# Altium schematic symbol library R-Resistor.SCHLIB: 68 symbols
Pins are listed as number, name and electrical type; pins without a type are passive.

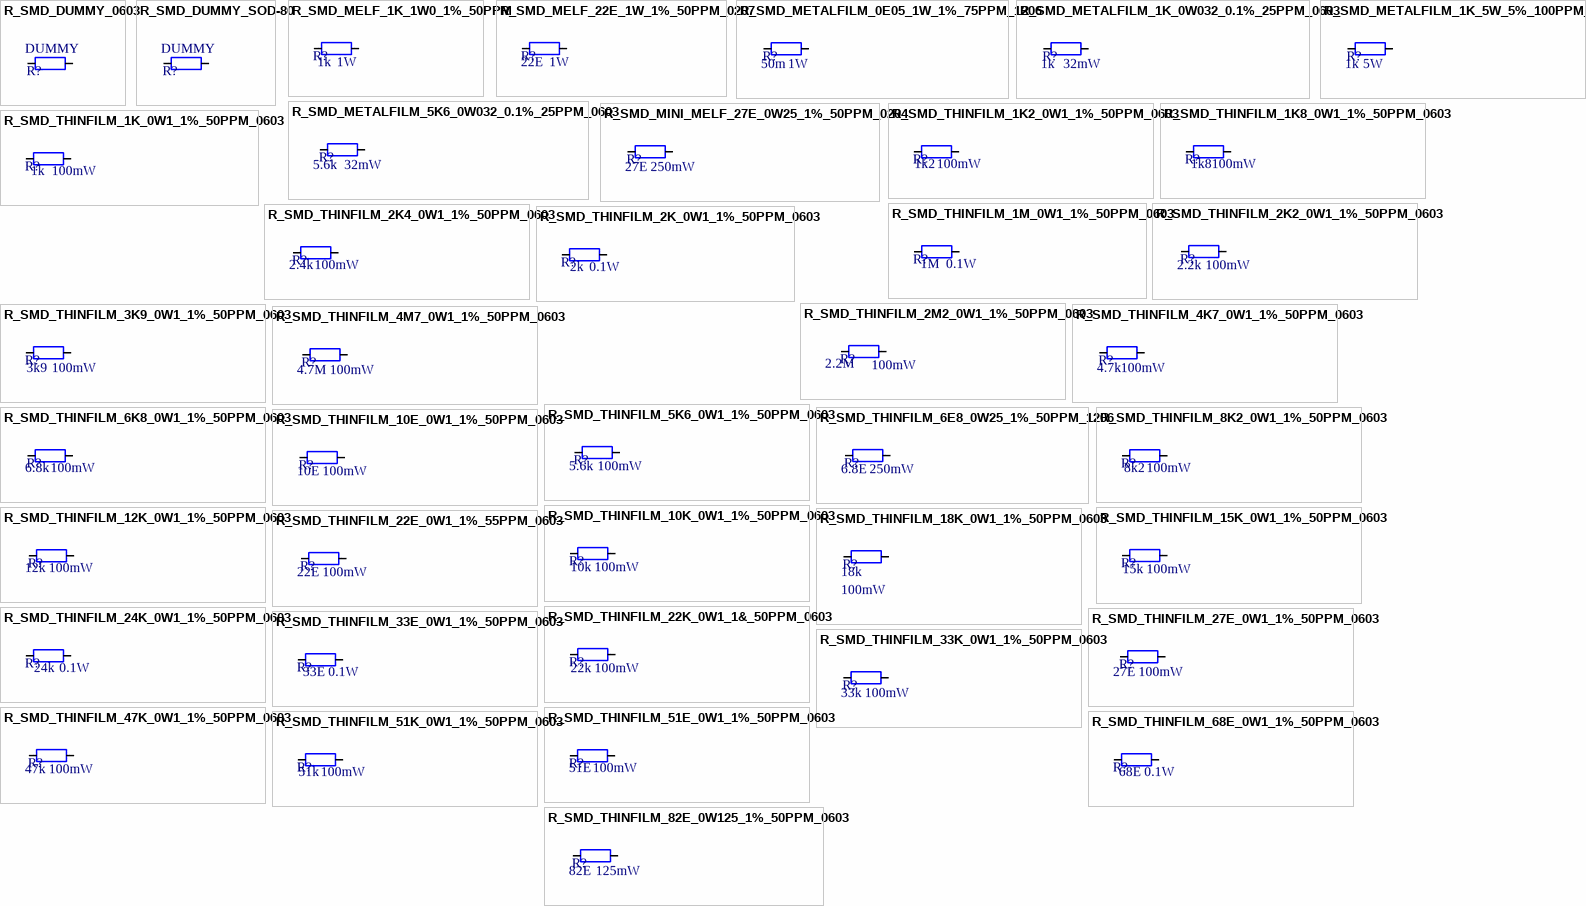
[diagram p0: symbols R_SMD_DUMMY_0603 to R_SMD_THINFILM_82E_0W125_1%_50PPM_0603]

## R_SMD_DUMMY_0603
designator R?, comment DUMMY
DUMMY 0603
footprint SMD_0603
pins: 1, 2

## R_SMD_DUMMY_SOD-80
designator R?, comment DUMMY
footprint SMD_SOD_80
pins: 1, 2

## R_SMD_MELF_1K_1W0_1%_50PPM
designator R?  value 1k  Value2: 1W  (hidden comment: R_SMD_MELF_1K_1W0_1%_50PPM)
SMD Resistor; Supplier - E+H-flowtec SAP: 50087788
footprint SMD_0207
pins: 1, 2

## R_SMD_MELF_22E_1W_1%_50PPM_0207
designator R?  value 22E  Value2: 1W  (hidden comment: R_SMD_MELF_22E_1W_1%_50PPM_0207)
SMD Resistor; Supplier - E+H-flowtec SAP: 50083514
footprint SMD_0207
pins: 1, 2

## R_SMD_METALFILM_0E05_1W_1%_75PPM_1206
designator R?  value 50m  Value2: 1W  (hidden comment: R_SMD_METALFILM_0E05_1W_1%_75PPM_1206)
SMD Resitor, 50m, 1W; Supplier - Digikey: WSLP-.05CT-ND
footprint SMD_1206
pins: 1, 2

## R_SMD_METALFILM_1K_0W032_0.1%_25PPM_0603
designator R?  value 1k  Value2: 32mW  (hidden comment: R_SMD_METALFILM_1K_0W032_0.1%_25PPM_0603)
SMD Resistor precise; Supplier - E+H-flowtec SAP: 71120415
footprint SMD_0603
pins: 1, 2

## R_SMD_METALFILM_1K_5W_5%_100PPM_5329
designator R?  value 1k  Value2: 5W  (hidden comment: R_SMD_METALFILM_1K_5W_5%_100PPM_5329)
Supplier - Digikey: A103581CT-ND
footprint SMD_5329
pins: 1, 2

## R_SMD_METALFILM_5K6_0W032_0.1%_25PPM_0603
designator R?  value 5.6k  Value2: 32mW  (hidden comment: R_SMD_METALFILM_5K6_0W032_0.1%_25PPM_0603)
SMD Resistor Precise; Supplier - E+H-flowtec SAP: 71028882
footprint SMD_0603
pins: 1, 2

## R_SMD_MINI_MELF_27E_0W25_1%_50PPM_0204
designator R?  value 27E  Value2: 250mW  (hidden comment: R_SMD_MINI_MELF_27E_0W25_1%_50PPM_0204)
Supplier - E+H-flowtec SAP: 50019731
footprint SMD_0204
pins: 1, 2

## R_SMD_THINFILM_1K2_0W1_1%_50PPM_0603
designator R?  value 1k2  Value2: 100mW  (hidden comment: R_SMD_THINFILM_1K2_0W1_1%_50PPM_0603)
SMD Resistor; Supplier - E+H-flowtec: 50098312
footprint SMD_0603
pins: 1, 2

## R_SMD_THINFILM_1K8_0W1_1%_50PPM_0603
designator R?  value 1k8  Value2: 100mW  (hidden comment: R_SMD_THINFILM_1K8_0W1_1%_50PPM_0603)
SMD Resistor; Supplier - E+H-flowtec SAP: 50098311
footprint SMD_0603
pins: 1, 2

## R_SMD_THINFILM_1K_0W1_1%_50PPM_0603
designator R?  value 1k  Value2: 100mW  (hidden comment: R_SMD_THINFILM_1K_0W1_1%_50PPM_0603)
SMD Resistor; Supplier - E+H-flowtec SAP: 50092685
footprint SMD_0603
pins: 1, 2

## R_SMD_THINFILM_1M_0W1_1%_50PPM_0603
designator R?  value 1M  Value2: 0.1W  (hidden comment: R_SMD_THINFILM_1M_0W1_1%_50PPM_0603)
SMD Resistor; Supplier - E+H-flowtec SAP: 50092725
footprint SMD_0603
pins: 1, 2

## R_SMD_THINFILM_2K2_0W1_1%_50PPM_0603
designator R?  value 2.2k  Value2: 100mW  (hidden comment: R_SMD_THINFILM_2K2_0W1_1%_50PPM_0603)
SMD Resistor; Supplier - E+H-flowtec SAP: 50092688
footprint SMD_0603
pins: 1, 2

## R_SMD_THINFILM_2K4_0W1_1%_50PPM_0603
designator R?  value 2.4k  Value2: 100mW  (hidden comment: R_SMD_THINFILM_2K4_0W1_1%_50PPM_0603)
SMD Resistor; Supplier - E+H-flowtec SAP: 50092689
footprint SMD_0603
pins: 1, 2

## R_SMD_THINFILM_2K_0W1_1%_50PPM_0603
designator R?  value 2k  Value2: 0.1W  (hidden comment: R_SMD_THINFILM_2K_0W1_1%_50PPM_0603)
SMD Resistor; Supplier - E+H-flowtec SAP: 50092687
footprint SMD_0603
pins: 1, 2

## R_SMD_THINFILM_2M2_0W1_1%_50PPM_0603
designator R?  value 2.2M  Value2: 100mW  (hidden comment: R_SMD_THINFILM_2M2_0W1_1%_50PPM_0603)
SMD Resistor; Supplier - E+H-flowtec SAP: 50092790
footprint SMD_0603
pins: 1, 2

## R_SMD_THINFILM_3K9_0W1_1%_50PPM_0603
designator R?  value 3k9  Value2: 100mW  (hidden comment: R_SMD_THINFILM_3K9_0W1_1%_50PPM_0603)
SMD Resistor; Supplier - E+H-flowtec SAP: 50092692
footprint SMD_0603
pins: 1, 2

## R_SMD_THINFILM_4K7_0W1_1%_50PPM_0603
designator R?  value 4.7k  Value2: 100mW  (hidden comment: R_SMD_THINFILM_4K7_0W1_1%_50PPM_0603)
SMD Resistor; Supplier - E+H-flowtec SAP: 50092694
footprint SMD_0603
pins: 1, 2

## R_SMD_THINFILM_4M7_0W1_1%_50PPM_0603
designator R?  value 4.7M  Value2: 100mW  (hidden comment: R_SMD_THINFILM_4M7_0W1_1%_50PPM_0603)
SMD Resistor; Supplier - E+H-flowtec SAP: 71185385
footprint SMD_0603
pins: 1, 2

## R_SMD_THINFILM_5K6_0W1_1%_50PPM_0603
designator R?  value 5.6k  Value2: 100mW  (hidden comment: R_SMD_THINFILM_5K6_0W1_1%_50PPM_0603)
SMD Resistor; Supplier - E+H-flowtec SAP: 50092696
footprint SMD_0603
pins: 1, 2

## R_SMD_THINFILM_6E8_0W25_1%_50PPM_1206
designator R?  value 6.8E  Value2: 250mW  (hidden comment: R_SMD_THINFILM_6E8_0W25_1%_50PPM_1206)
SMD Resistor; Supplier - E+H-flowtec SAP: 71138859
footprint SMD_1206
pins: 1, 2

## R_SMD_THINFILM_6K8_0W1_1%_50PPM_0603
designator R?  value 6.8k  Value2: 100mW  (hidden comment: R_SMD_THINFILM_6K8_0W1_1%_50PPM_0603)
SMD Resistor; Supplier - E+H-flowtec SAP: 50092698
footprint SMD_0603
pins: 1, 2

## R_SMD_THINFILM_8K2_0W1_1%_50PPM_0603
designator R?  value 8k2  Value2: 100mW  (hidden comment: R_SMD_THINFILM_8K2_0W1_1%_50PPM_0603)
SMD Resistor; Supplier - E+H-flowtec SAP: 50092699
footprint SMD_0603
pins: 1, 2

## R_SMD_THINFILM_10E_0W1_1%_50PPM_0603
designator R?  value 10E  Value2: 100mW  (hidden comment: R_SMD_THINFILM_10E_0W1_1%_50PPM_0603)
SMD Resistor; Supplier - E+H-flowtec SAP: 50092664
footprint SMD_0603
pins: 1, 2

## R_SMD_THINFILM_10K_0W1_1%_50PPM_0603
designator R?  value 10k  Value2: 100mW  (hidden comment: R_SMD_THINFILM_10K_0W1_1%_50PPM_0603)
SMD Resistor; Supplier - E+H-flowtec SAP: 50092700
footprint SMD_0603
pins: 1, 2

## R_SMD_THINFILM_12K_0W1_1%_50PPM_0603
designator R?  value 12k  Value2: 100mW  (hidden comment: R_SMD_THINFILM_12K_0W1_1%_50PPM_0603)
SMD Resistor; Supplier - E+H-flowtec SAP: 50092701
footprint SMD_0603
pins: 1, 2

## R_SMD_THINFILM_15K_0W1_1%_50PPM_0603
designator R?  value 15k  Value2: 100mW  (hidden comment: R_SMD_THINFILM_15K_0W1_1%_50PPM_0603)
SMD Resistor; Supplier - E+H-flowtec SAP: 50092702
footprint SMD_0603
pins: 1, 2

## R_SMD_THINFILM_18K_0W1_1%_50PPM_0603
designator R?  value 18k  Value2: 100mW  (hidden comment: R_SMD_THINFILM_18K_0W1_1%_50PPM_0603)
SMD Resistor; Supplier - E+H-flowtec SAP: 50092703
footprint SMD_0603
pins: 1, 2

## R_SMD_THINFILM_22E_0W1_1%_55PPM_0603
designator R?  value 22E  Value2: 100mW  (hidden comment: R_SMD_THINFILM_22E_0W1_1%_55PPM_0603)
SMD Resistor; Supplier - E+H-flowtec SAP: 50092667
footprint SMD_0603
pins: 1, 2

## R_SMD_THINFILM_22K_0W1_1&_50PPM_0603
designator R?  value 22k  Value2: 100mW  (hidden comment: R_SMD_THINFILM_22K_0W1_1&_50PPM_0603)
SMD Resistor; Supplier - E+H-flowtec SAP: 50092704
footprint SMD_0603
pins: 1, 2

## R_SMD_THINFILM_24K_0W1_1%_50PPM_0603
designator R?  value 24k  Value2: 0.1W  (hidden comment: R_SMD_THINFILM_24K_0W1_1%_50PPM_0603)
SMD Resistor; Supplier - E+H-flowtec SAP: 50110072
footprint SMD_0603
pins: 1, 2

## R_SMD_THINFILM_27E_0W1_1%_50PPM_0603
designator R?  value 27E  Value2: 100mW  (hidden comment: R_SMD_THINFILM_27E_0W1_1%_50PPM_0603)
SMD Resistor; Supplier - E+H-flowtec SAP: (unknown)
footprint SMD_0603
pins: 1, 2

## R_SMD_THINFILM_33E_0W1_1%_50PPM_0603
designator R?  value 33E  Value2: 0.1W  (hidden comment: R_SMD_THINFILM_33E_0W1_1%_50PPM_0603)
SMD Resistor; Supplier - E+H-flowtec SAP: 50092668
footprint SMD_0603
pins: 1, 2

## R_SMD_THINFILM_33K_0W1_1%_50PPM_0603
designator R?  value 33k  Value2: 100mW  (hidden comment: R_SMD_THINFILM_33K_0W1_1%_50PPM_0603)
SMD Resistor; Supplier - E+H-flowtec SAP: 50092706
footprint SMD_0603
pins: 1, 2

## R_SMD_THINFILM_47K_0W1_1%_50PPM_0603
designator R?  value 47k  Value2: 100mW  (hidden comment: R_SMD_THINFILM_47K_0W1_1%_50PPM_0603)
SMD Resistor; Supplier - E+H-flowtec SAP: 50092708
footprint SMD_0603
pins: 1, 2

## R_SMD_THINFILM_51E_0W1_1%_50PPM_0603
designator R?  value 51E  Value2: 100mW  (hidden comment: R_SMD_THINFILM_51E_0W1_1%_50PPM_0603)
SMD Resistor; Supplier - E+H-flowtec SAP: 71203713
footprint SMD_0603
pins: 1, 2

## R_SMD_THINFILM_51K_0W1_1%_50PPM_0603
designator R?  value 51k  Value2: 100mW  (hidden comment: R_SMD_THINFILM_51K_0W1_1%_50PPM_0603)
SMD Resistor; Supplier - E+H-flowtec SAP: 50092709
footprint SMD_0603
pins: 1, 2

## R_SMD_THINFILM_68E_0W1_1%_50PPM_0603
designator R?  value 68E  Value2: 0.1W  (hidden comment: R_SMD_THINFILM_68E_0W1_1%_50PPM_0603)
SMD Resistor; Supplier - E+H-flowtec SAP: 71206293
footprint SMD_0603
pins: 1, 2

## R_SMD_THINFILM_82E_0W125_1%_50PPM_0603
designator R?  value 82E  Value2: 125mW  (hidden comment: R_SMD_THINFILM_82E_0W125_1%_50PPM_0603)
SMD Resistor; Supplier - Digikey: MCT06030C8209FP500-ND
footprint SMD_0603
pins: 1, 2

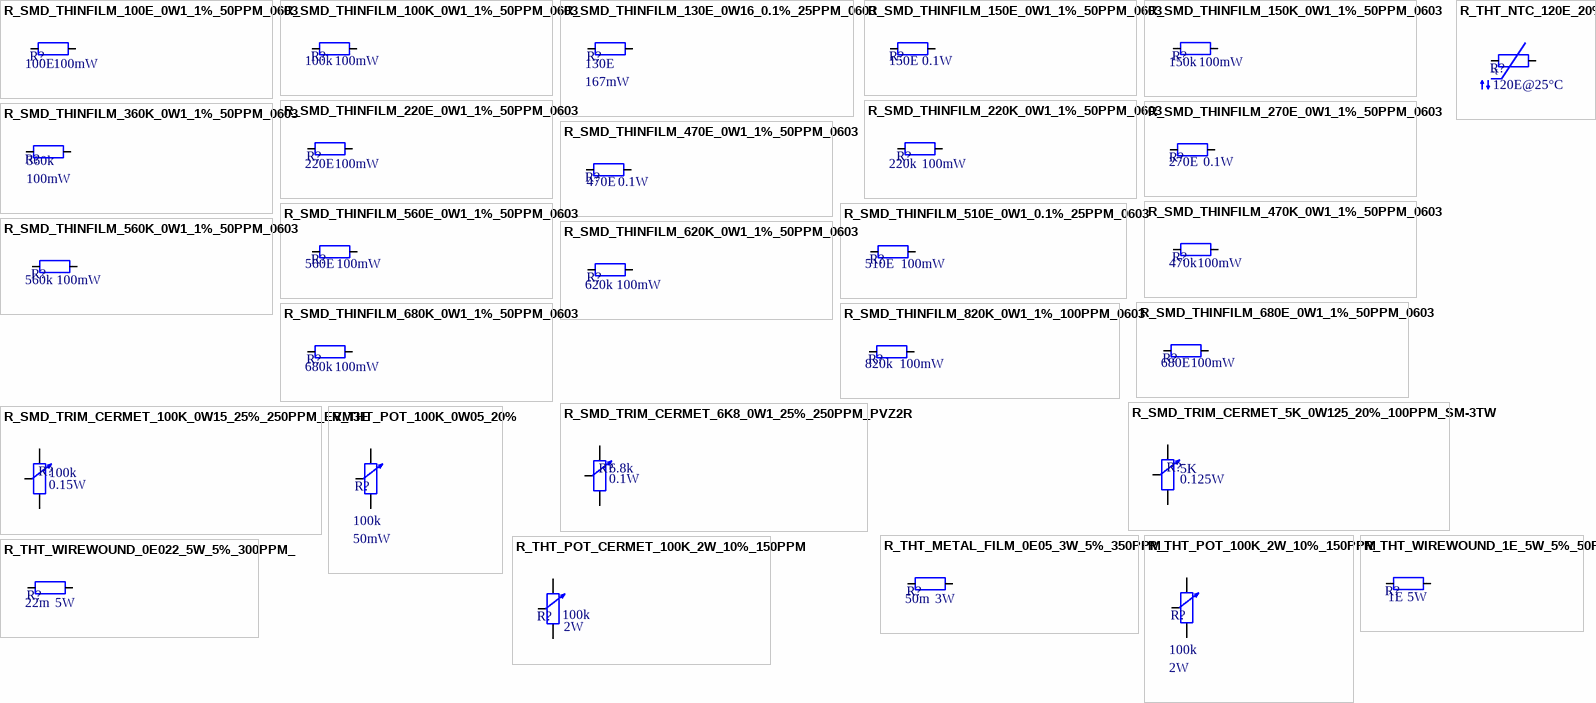
[diagram p1: symbols R_SMD_THINFILM_100E_0W1_1%_50PPM_0603 to R_THT_WIREWOUND_1E_5W_5%_50PPM]

## R_SMD_THINFILM_100E_0W1_1%_50PPM_0603
designator R?  value 100E  Value2: 100mW  (hidden comment: R_SMD_THINFILM_100E_0W1_1%_50PPM_0603)
SMD Resistor; Supplier - E+H-flowtec SAP: 50092674
footprint SMD_0603
pins: 1, 2

## R_SMD_THINFILM_100K_0W1_1%_50PPM_0603
designator R?  value 100k  Value2: 100mW  (hidden comment: R_SMD_THINFILM_100K_0W1_1%_50PPM_0603)
SMD Resistor; Supplier - E+H-flowtec SAP: 50092714
footprint SMD_0603
pins: 1, 2

## R_SMD_THINFILM_130E_0W16_0.1%_25PPM_0603
designator R?  value 130E  Value2: 167mW  (hidden comment: R_SMD_THINFILM_130E_0W16_0.1%_25PPM_0603)
Supplier - Digikey: A110023CT-ND
footprint SMD_0603
pins: 1, 2

## R_SMD_THINFILM_150E_0W1_1%_50PPM_0603
designator R?  value 150E  Value2: 0.1W  (hidden comment: R_SMD_THINFILM_150E_0W1_1%_50PPM_0603)
SMD Resistor; Supplier - E+H-flowtec SAP: 50092676
footprint SMD_0603
pins: 1, 2

## R_SMD_THINFILM_150K_0W1_1%_50PPM_0603
designator R?  value 150k  Value2: 100mW  (hidden comment: R_SMD_THINFILM_150K_0W1_1%_50PPM_0603)
SMD Resistor; Supplier - E+H-flowtec SAP: 50092716
footprint SMD_0603
pins: 1, 2

## R_SMD_THINFILM_220E_0W1_1%_50PPM_0603
designator R?  value 220E  Value2: 100mW  (hidden comment: R_SMD_THINFILM_220E_0W1_1%_50PPM_0603)
SMD Resistor; Supplier - E+H-flowtec SAP: 50092678
footprint SMD_0603
pins: 1, 2

## R_SMD_THINFILM_220K_0W1_1%_50PPM_0603
designator R?  value 220k  Value2: 100mW  (hidden comment: R_SMD_THINFILM_220K_0W1_1%_50PPM_0603)
SMD Resistor; Supplier - E+H-flowtec SAP: 50092718
footprint SMD_0603
pins: 1, 2

## R_SMD_THINFILM_270E_0W1_1%_50PPM_0603
designator R?  value 270E  Value2: 0.1W  (hidden comment: R_SMD_THINFILM_270E_0W1_1%_50PPM_0603)
SMD Resistor; Supplier - E+H-flowtec SAP: 50098310
footprint SMD_0603
pins: 1, 2

## R_SMD_THINFILM_360K_0W1_1%_50PPM_0603
designator R?  value 360k  Value2: 100mW  (hidden comment: R_SMD_THINFILM_360K_0W1_1%_50PPM_0603)
SMD Resistor; Supplier - E+H-flowtec SAP: 71219818
footprint SMD_0603
pins: 1, 2

## R_SMD_THINFILM_470E_0W1_1%_50PPM_0603
designator R?  value 470E  Value2: 0.1W  (hidden comment: R_SMD_THINFILM_470E_0W1_1%_50PPM_0603)
SMD Resistor; Supplier - E+H-flowtec SAP: 50092681
footprint SMD_0603
pins: 1, 2

## R_SMD_THINFILM_470K_0W1_1%_50PPM_0603
designator R?  value 470k  Value2: 100mW  (hidden comment: R_SMD_THINFILM_470K_0W1_1%_50PPM_0603)
SMD Resistor; Supplier - E+H-flowtec SAP: 50092722
footprint SMD_0603
pins: 1, 2

## R_SMD_THINFILM_510E_0W1_0.1%_25PPM_0603
designator R?  value 510E  Value2: 100mW  (hidden comment: R_SMD_THINFILM_510E_0W1_0.1%_25PPM_0603)
SMD Resistor; Supplier - Digikey: P510DBCT-ND
footprint SMD_0603
pins: 1, 2

## R_SMD_THINFILM_560E_0W1_1%_50PPM_0603
designator R?  value 560E  Value2: 100mW  (hidden comment: R_SMD_THINFILM_560E_0W1_1%_50PPM_0603)
SMD Resistor; Supplier - E+H-flowtec SAP: 50092682
footprint SMD_0603
pins: 1, 2

## R_SMD_THINFILM_560K_0W1_1%_50PPM_0603
designator R?  value 560k  Value2: 100mW  (hidden comment: R_SMD_THINFILM_560K_0W1_1%_50PPM_0603)
SMD Resistor; Supplier - E+H-flowtec SAP: 50092723
footprint SMD_0603
pins: 1, 2

## R_SMD_THINFILM_620K_0W1_1%_50PPM_0603
designator R?  value 620k  Value2: 100mW  (hidden comment: R_SMD_THINFILM_620K_0W1_1%_50PPM_0603)
SMD Resistor; Supplier - E+H-flowtec SAP: 71164284
footprint SMD_0603
pins: 1, 2

## R_SMD_THINFILM_680E_0W1_1%_50PPM_0603
designator R?  value 680E  Value2: 100mW  (hidden comment: R_SMD_THINFILM_680E_0W1_1%_50PPM_0603)
SMD Resistor; Supplier - E+H-flowtec SAP: 50092683
footprint SMD_0603
pins: 1, 2

## R_SMD_THINFILM_680K_0W1_1%_50PPM_0603
designator R?  value 680k  Value2: 100mW  (hidden comment: R_SMD_THINFILM_680K_0W1_1%_50PPM_0603)
SMD Resistor; Supplier - E+H-flowtec SAP: 50092724
footprint SMD_0603
pins: 1, 2

## R_SMD_THINFILM_820K_0W1_1%_100PPM_0603
designator R?  value 820k  Value2: 100mW  (hidden comment: R_SMD_THINFILM_820K_0W1_1%_100PPM_0603)
SMD Resistor; Supplier - E+H-flowtec SAP: 71211650
footprint SMD_0603
pins: 1, 2

## R_SMD_TRIM_CERMET_5K_0W125_20%_100PPM_SM-3TW
designator R?  value 5K  Value2: 0.125W  (hidden comment: R_SMD_TRIM_CERMET_5K_0W125_20%_100PPM_SM-3TW)
Trimmer, 10 Turns, 5K, 0.125W; Supplier - Digikey: SM-3TW502CT-ND
footprint SMD_TRIM_SM-3TW
pins: 1 NC, 2 NC, 3 NC

## R_SMD_TRIM_CERMET_6K8_0W1_25%_250PPM_PVZ2R
designator R?  value 6.8k  Value2: 0.1W  (hidden comment: R_SMD_TRIM_CERMET_6K8_0W1_25%_250PPM_PVZ2R)
Trimmer 6.8k; Supplier - Digikey: 490-3926-1-ND
footprint SMD_TRIM_PVZ2R (SMD Trimmer PVZ2R)
pins: 1 NC, 2 NC, 3 NC

## R_SMD_TRIM_CERMET_100K_0W15_25%_250PPM_EVM3E
designator R?  value 100k  Value2: 0.15W  (hidden comment: R_SMD_TRIM_CERMET_100K_0W15_25%_250PPM_EVM3E)
Trimmer 100k EVM3E; Supplier - Digikey: P3Y104TR-ND
footprint SMD_TRIM_EVM3E (SMD TRIMMER EVM3E)
pins: 1 NC, 2 NC, 3 NC

## R_THT_METAL_FILM_0E05_3W_5%_350PPM_
designator R?  value 50m  Value2: 3W  (hidden comment: R_THT_METAL_FILM_0E05_3W_5%_350PPM_)
50mOhm 3W Power Resistor; Supplier - Digikey: MPR3JB50L0-ND
footprint THT_R_A_L14.0_W5.0_P10.0
pins: 1, 2

## R_THT_NTC_120E_20%
designator R?  value 120E@25°C  (hidden comment: R_THT_NTC_120E_20%)
CURRENT LIMITER INRUSH 120OHM 20%; Supplier - Digikey: 317-1221-ND
footprint THT_R_A_L17.5_D6_P10
pins: 1, 2
text: -t

## R_THT_POT_100K_0W05_20%
designator R?  value 100k  Value2: 50mW  (hidden comment: R_THT_POT_100K_0W05_20%)
POT 100K OHM 9MM SQ .05W CARB; Type: PTV09A-4225F-B104; Supplier - Digikey: PTV09A-4225F-B104-ND
footprint THT_PTV09A-4225F-B104
pins: 1 NC, 2 NC, 3 NC

## R_THT_POT_100K_2W_10%_150PPM
designator R?  value 100k  Value2: 2W  (hidden comment: R_THT_POT_100K_2W_10%_150PPM)
POT 100K OHM 3/4" RD CERM; Type: 3856A-282-104AL; Supplier - Digikey: 3856A-282-104AL-ND
footprint THT_CON_P2.54_D0.9_1X3
pins: 1 NC, 2 NC, 3 NC

## R_THT_POT_CERMET_100K_2W_10%_150PPM
designator R?  value 100k  Value2: 2W  (hidden comment: R_THT_POT_CERMET_100K_2W_10%_150PPM)
Panel mount 100k linear cermet potentiometer; Supplier - Digikey: 3856A-282-104AL-ND; Type: 3856A-282-104AL
footprint THT_TRIM_3856A
pins: 1 NC, 2 NC, 3 NC

## R_THT_WIREWOUND_0E022_5W_5%_300PPM_
designator R?  value 22m  Value2: 5W  (hidden comment: R_THT_WIREWOUND_0E022_5W_5%_300PPM_)
22mOhm 5W Power Resistor; Supplier - Digikey: A103692-ND
footprint THT_SQ-CGS, 13x9x25 (Footprint for power resistor)
pins: 1, 2

## R_THT_WIREWOUND_1E_5W_5%_50PPM
designator R?  value 1E  Value2: 5W  (hidden comment: R_THT_WIREWOUND_1E_5W_5%_50PPM)
THT Power Resistor; Supplier - Digikey: ALSR5J-1.0-ND; Type: ALSR051R000JE12
footprint THT_R_A_L23.8_D7.9_P25.8
pins: 1, 2